# EAGLE library part PIC18F1330 (library 000001)
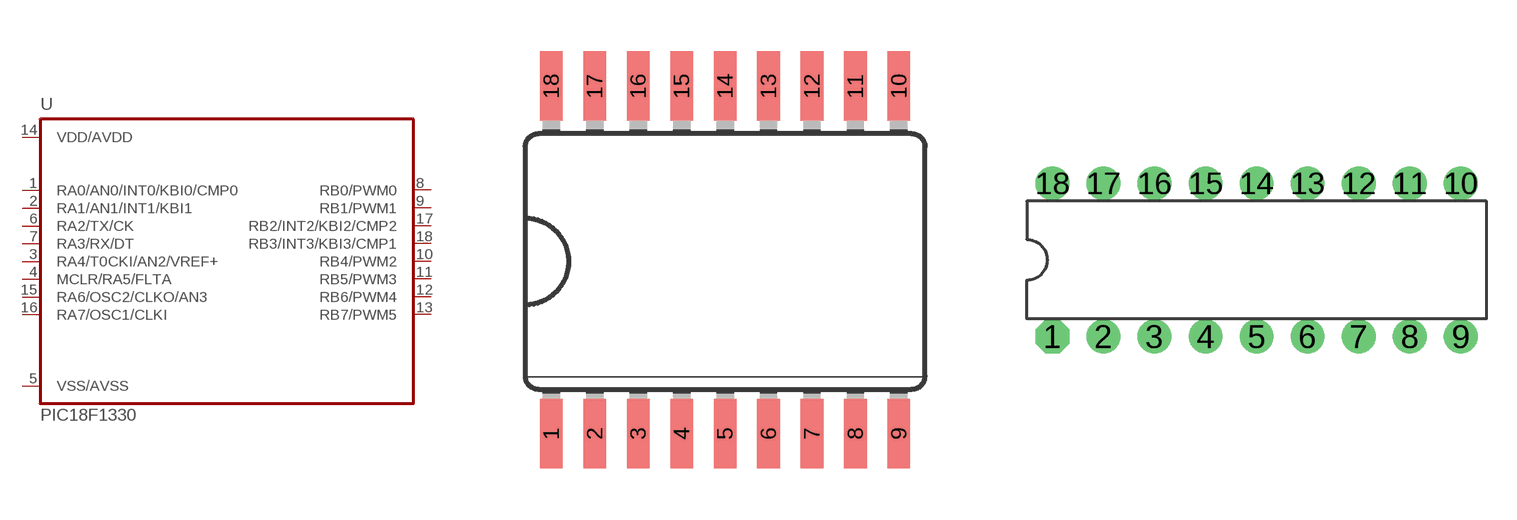
[diagram p57: symbol with the pads of SO18W; footprints SO18W, DIP18]

Designator prefix -

## PIC18F1330'SO  [SO18W]
1  RA0/AN0/INT0/KBI0/CMP0
2  RA1/AN1/INT1/KBI1
3  RA4/T0CKI/AN2/VREF+
4  MCLR/RA5/FLTA  in
5  VSS/AVSS  pwr
6  RA2/TX/CK
7  RA3/RX/DT
8  RB0/PWM0
9  RB1/PWM1
10  RB4/PWM2
11  RB5/PWM3
12  RB6/PWM4
13  RB7/PWM5
14  VDD/AVDD  pwr
15  RA6/OSC2/CLKO/AN3
16  RA7/OSC1/CLKI
17  RB2/INT2/KBI2/CMP2
18  RB3/INT3/KBI3/CMP1

## PIC18F1330  [DIP18]
Pads as for SO18W

## Footprint SO18W (pad centres in mm)
smd 0.66 x 2.032: 1 -8.255,-5.029; 2 -6.985,-5.029; 3 -5.715,-5.029; 4 -4.445,-5.029; 5 -3.175,-5.029; 6 -1.905,-5.029; 7 -0.635,-5.029; 8 0.635,-5.029; 9 1.905,-5.029; 10 1.905,5.131; 11 0.635,5.131; 12 -0.635,5.131; 13 -1.905,5.131; 14 -3.175,5.131; 15 -4.445,5.131; 16 -5.715,5.131; 17 -6.985,5.131; 18 -8.255,5.131

## Footprint DIP18 (pad centres in mm)
drill 0.5 pad 1.676 octagon: 1 -10.16,-3.81
drill 0.5 pad 1.676 round: 2 -7.62,-3.81; 3 -5.08,-3.81; 4 -2.54,-3.81; 5 0,-3.81; 6 2.54,-3.81; 7 5.08,-3.81; 8 7.62,-3.81; 9 10.16,-3.81; 10 10.16,3.81; 11 7.62,3.81; 12 5.08,3.81; 13 2.54,3.81; 14 0,3.81; 15 -2.54,3.81; 16 -5.08,3.81; 17 -7.62,3.81; 18 -10.16,3.81